# Altium footprint library 705530110.PcbLib: 1 footprints
Each footprint in its own frame and in the unit in brackets; x right, y up, seen from the top. Pads: shape width x height; smd on the part's side, far side on the other; paste and mask are expansions set on the pad; w line width, h text height; cw(c..) or ccw(c..) is an arc to the next point about the centre after c.
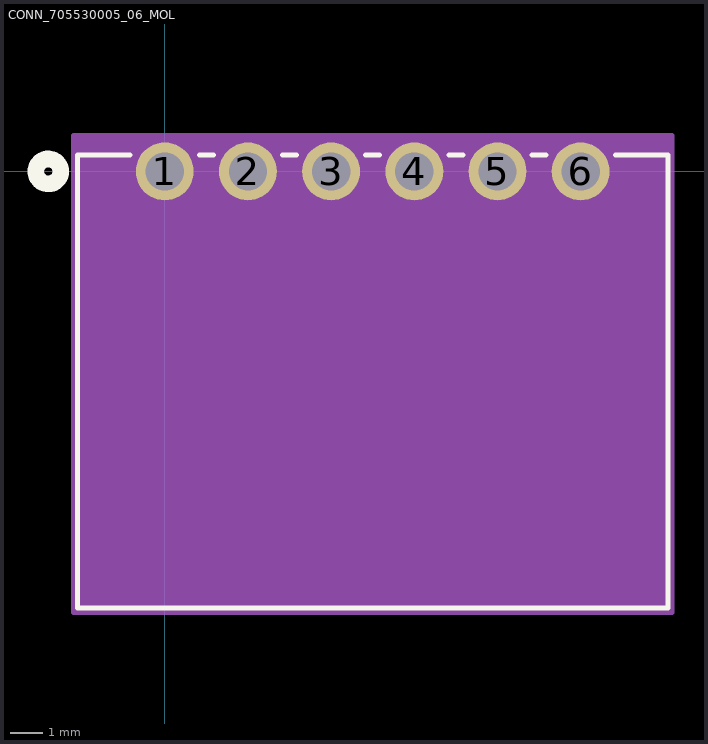
[diagram p0: the footprint, top view; thin cyan lines are the x and y axes]

## CONN_705530005_06_MOL [mil]
pads (6):
  round 69.61 hole 46 paste-99999 mask+0: 1(0,0) 2(100,0) 3(200,0) 4(300,0) 5(400,0) 6(500,0)
Top Overlay:
  circle w20: c-140,0 r15
  lines w6: -41.55,19.96 -105,19.96 -105,-525.04 605,-525.04 605,19.96 541.55,19.96 ; 41.55,19.96 58.45,19.96 ; 141.55,19.96 158.45,19.96 ; 241.55,19.96 258.45,19.96 ; 341.55,19.96 358.45,19.96 ; 441.55,19.96 458.45,19.96
Bottom Overlay:
  circle w20: c-140,0 r15
Mechanical 13:
  circle w20: c0,0 r15
  lines w1: -100,-520.04 600,-520.04 600,14.96 -100,14.96 -100,-520.04
Mechanical 15:
  region: 610,43 -110,43 -110,-530.04 610,-530.04
  lines w6: -110,-530.04 -110,43 610,43 610,-530.04 -110,-530.04
3D body "0705530110.stp": height 272, standoff -133, extent -100,-520 600,15